# Altium schematic symbol library 10TCE330M.SchLib: 1 symbol
Pins are listed as number, name and electrical type; pins without a type are passive.

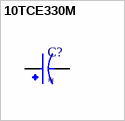
[diagram p0: symbol 10TCE330M]

## 10TCE330M
designator C?
MF: {'manufacturer': u'Panasonic'}; MP: 10TCE330M; Package: None; Price: None; Value: *; Availability: Unavailable
footprint CAP_10TCE330M
pins: 1, 2